# Altium footprint library SOP50P490X110-10N.PcbLib: 1 footprints
Each footprint in its own frame and in the unit in brackets; x right, y up, seen from the top. Pads: shape width x height; smd on the part's side, far side on the other; paste and mask are expansions set on the pad; w line width, h text height; cw(c..) or ccw(c..) is an arc to the next point about the centre after c.
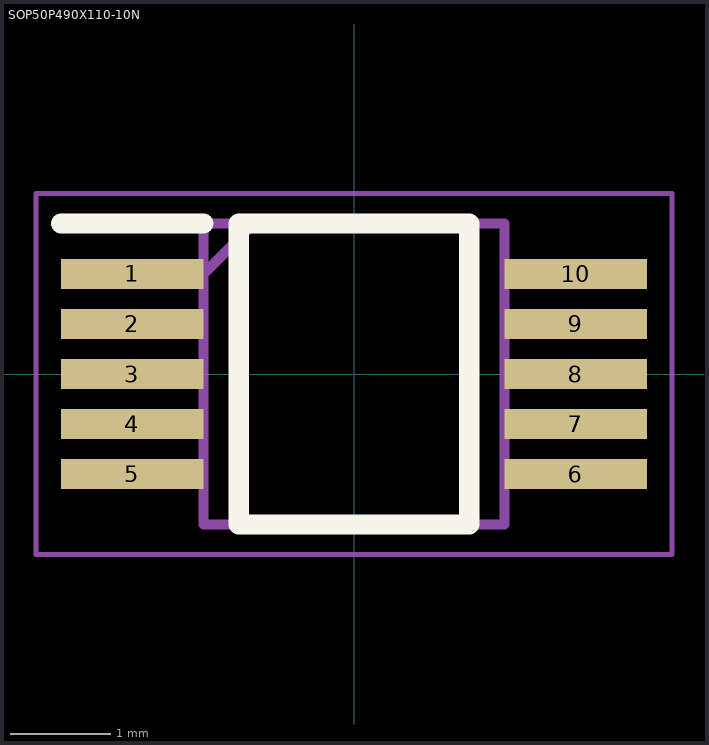
[diagram p0: the footprint, top view; thin cyan lines are the x and y axes]

## SOP50P490X110-10N [mm]
pads (10):
  rect 1.425x0.3 smd: 1(-2.212,1) 2(-2.212,0.5) 3(-2.212,0) 4(-2.212,-0.5) 5(-2.212,-1) 6(2.212,-1) 7(2.212,-0.5) 8(2.212,0) 9(2.212,0.5) 10(2.212,1)
Top Overlay:
  lines w0.2: -2.925,1.5 -1.5,1.5 ; -1.15,-1.5 1.15,-1.5 1.15,1.5 -1.15,1.5 -1.15,-1.5
Mechanical 15:
  lines w0.1: -1.5,1 -1,1.5 ; -1.5,-1.5 1.5,-1.5 1.5,1.5 -1.5,1.5 -1.5,-1.5
Mechanical 20:
  lines w0.05: -3.175,-1.801 3.175,-1.801 3.175,1.801 -3.175,1.801 -3.175,-1.801